# Altium footprint library ATK-2014-09-12.PcbLib: 439 footprints (part 2 of 28)
Each footprint in its own frame and in the unit in brackets; x right, y up, seen from the top. Pads: shape width x height; smd on the part's side, far side on the other; paste and mask are expansions set on the pad; w line width, h text height; cw(c..) or ccw(c..) is an arc to the next point about the centre after c.
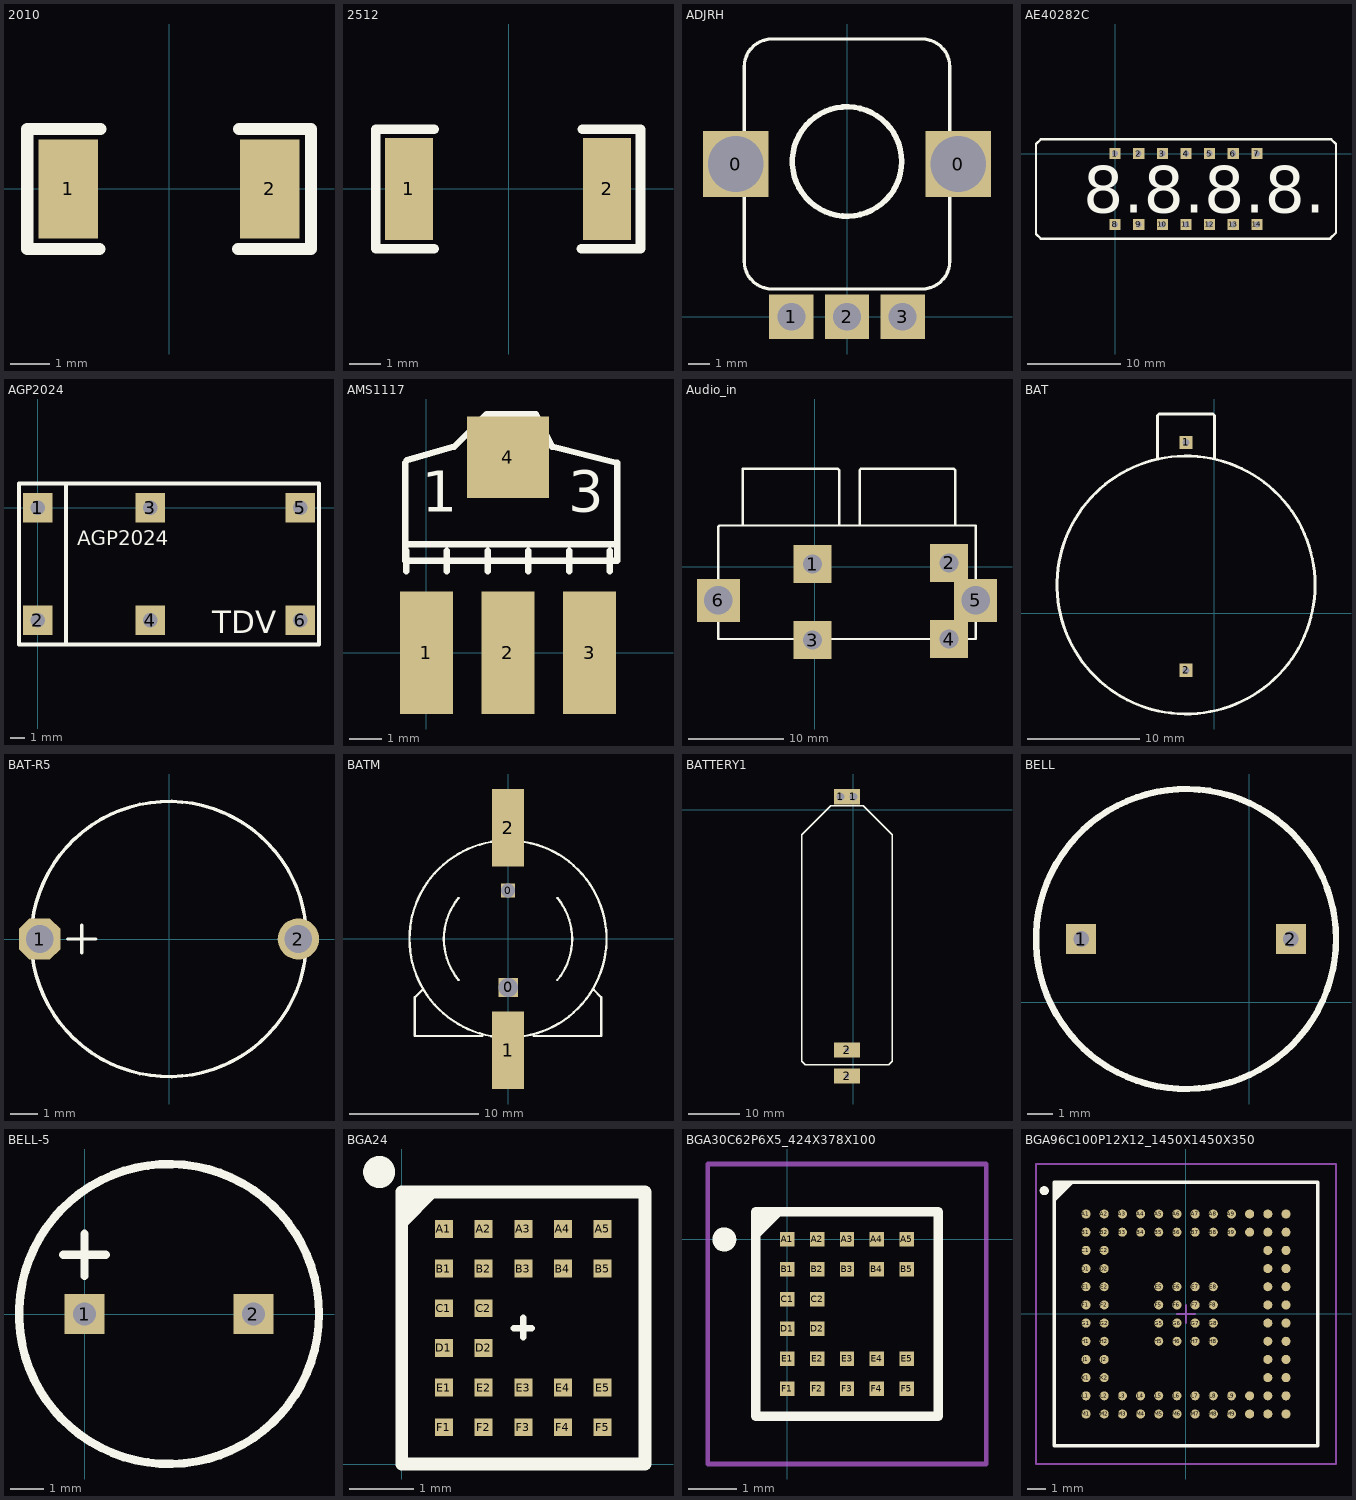
[diagram p1: the footprints below, top view; thin cyan lines are the x and y axes]

## 2010 [mm]
pads (2):
  rect 1.5x2.5 smd: 1(-2.553,0) 2(2.547,0)
Top Overlay:
  lines w0.305: -1.765,-1.524 -3.594,-1.524 -3.594,1.524 -1.74,1.524 ; 1.74,-1.524 3.594,-1.524 3.594,1.524 1.765,1.524

## 2512 [mm]
pads (2):
  rect 1.5x3.2 smd: 1(-3.124,0) 2(3.093,0)
Top Overlay:
  lines w0.305: -2.337,-1.88 -4.166,-1.88 -4.166,1.88 -2.337,1.88 ; 2.286,-1.88 4.14,-1.88 4.14,1.88 2.311,1.88

## ADJRH [mil]
pads (5):
  rect 118.11x118.11 hole 100: 0(-200,275) 0(200,275)
  rect 80x80 hole 50: 1(-100,0) 2(0,0) 3(100,0)
Top Overlay:
  circle w10: c0,279.48 r98.43
  lines w6: -185,100 ccw(c-135,100) -135,50 135,50 ccw(c135,100) 185,100 185,450 ccw(c135,450) 135,500 -135,500 ccw(c-135,450) -185,450 -185,100

## AE40282C [mm]
height 0.5
pads (14):
  rect 1.2x1.2 hole 0.635: 1(0,0) 2(2.54,0) 3(5.08,0) 4(7.62,0) 5(10.16,0) 6(12.7,0) 7(15.24,0) 8(0,-7.62) 9(2.54,-7.62) 10(5.08,-7.62) 11(7.62,-7.62) 12(10.16,-7.62) 13(12.7,-7.62) 14(15.24,-7.62)
Top Overlay:
  lines w0.254: -5.207,-9.144 20.32,-9.144 ; -4.826,-9.144 23.114,-9.144 23.749,-8.509 23.749,1.016 23.241,1.524 -8.001,1.524 -8.509,1.016 -8.509,-8.636 -8.001,-9.144 0.889,-9.144
  text "8.8.8.8." at -3.429,-6.35 h5

## AGP2024 [mm] "size:20mm*11mm*10mm pad:1mm.pads:6."
height 10
pads (6):
  rect 2x2 hole 1: 1(0,0) 2(0,-7.62) 3(7.62,0) 4(7.62,-7.62) 5(17.78,0) 6(17.78,-7.62)
Top Overlay:
  lines w0.254: 1.905,-9.271 1.905,1.524 ; -1.27,-9.271 -1.27,1.651 19.05,1.651 19.05,-9.271 -1.27,-9.271
  text "AGP2024" at 2.667,-2.54 h1
  text "TDV" at 11.811,-8.509 h1.52

## AMS1117 [mil]
pads (4):
  rect 65x150 smd: 1(0.03,-0.06) 2(100.03,-0.06) 3(200.03,-0.06)
  rect 100x100 smd: 4(100.03,239.94)
Top Overlay:
  lines w7.87: -25.97,232.94 -25.97,132.94 ; -24.97,99.94 -24.97,124.94 ; -24.3,236.27 34.03,252.94 74.03,292.94 134.03,292.94 154.03,252.94 234.03,232.94 234.03,112.94 ; 25.03,99.94 25.03,124.94 ; 75.03,99.94 75.03,124.94 ; 125.03,99.94 125.03,124.94 ; 175.03,99.94 175.03,124.94 ; 225.03,99.94 225.03,124.94 ; -25.97,132.94 234.03,132.94 234.03,112.94 ; -25.97,132.94 -25.97,112.94 234.03,112.94
  text "3" at 174.03,172.94 h50
  text "1" at -5.97,172.94 h50

## Audio_in [mm]
height 20
pads (6):
  rect 4x4 hole 2: 1(-0.254,0.254) 2(14.097,0.381) 3(-0.254,-7.747) 4(14.097,-7.62)
  rect 4.5x4.5 hole 3: 5(16.891,-3.556) 6(-10.16,-3.556)
Top Overlay:
  lines w0.254: -7.62,4.318 -7.62,10.287 2.413,10.287 2.54,10.16 2.54,4.318 ; -6.985,4.318 10.795,4.318 ; -6.096,4.318 -10.033,4.318 -10.16,4.191 -10.16,-7.62 10.16,-7.62 ; 4.699,4.318 4.699,9.906 4.699,10.16 4.826,10.287 6.223,10.287 ; 5.842,10.287 7.747,10.287 14.605,10.287 14.732,10.16 14.732,4.318 ; 9.652,-7.62 16.891,-7.62 16.891,2.54 16.891,4.318 10.033,4.318

## BAT [mm] "BATTERY"
pads (2):
  rect 1.2x1.2 hole 0.635: 1(-2.54,15.24) 2(-2.54,-5.08)
Top Overlay:
  circle w0.254: c-2.54,2.54 r11.5
  lines w0.254: -5.08,13.843 -5.08,17.653 -4.953,17.78 -0.127,17.78 0,17.653 0,13.843

## BAT-R5 [mm] "RTC后备电池  直径10mm"
height 3
pads (2):
  oct 1.5x1.5 hole 1: 1(-4.699,0)
  round 1.5 hole 1: 2(4.699,0)
Top Overlay:
  circle w0.127: c0,0 r5
  lines w0.127: -3.683,0 -2.667,0 ; -3.175,-0.508 -3.175,0.508

## BATM [mm] "BAT"
height 7
pads (4):
  rect 1.1x1.1 hole 1.1 unplated: 0(0,3.748)
  rect 1.5x1.5 hole 1.5 unplated: 0(0.025,-3.752)
  rect 2.5x6 smd: 1(0,-8.602) 2(0,8.598)
Top Overlay:
  lines w0.178: -6.6,-3.902 -7.2,-4.502 -7.2,-7.502 -2,-7.502 ; -3.815,-3.171 cw(c0,-0.002) -3.812,3.171 ; -0.833,-7.576 cw(c0,-0.002) -7.62,-0.002 cw(c0,-0.002) -0.833,7.573 ; 0.833,-7.576 ccw(c0,-0.002) 0.833,7.573 ; 2,-7.502 7.2,-7.502 7.2,-4.502 6.625,-3.927 ; 3.81,-3.177 ccw(c0,-0.002) 3.812,3.171

## BATTERY1 [mm] "18mm*49.5mm"
height 20
pads (4):
  rect 2.54x3 hole 1.5: 1(-2.54,2.54) 1(0,2.54)
  rect 5.08x3 hole 0.7: 2(-1.27,-52.07) 2(-1.27,-46.99)
Top Overlay:
  lines w0.254: -10.16,-46.736 -10.16,-44.577 -10.16,-6.604 -10.16,-4.953 -4.445,0.762 1.905,0.762 7.62,-4.953 7.62,-44.323 7.62,-49.149 6.858,-49.911 -9.398,-49.911 -10.16,-49.149 -10.16,-46.609

## BELL [mm] "BELL"
height 10
pads (2):
  rect 1.2x1.2 hole 0.635: 1(-6.731,2.54) 2(1.651,2.54)
Top Overlay:
  circle w0.254: c-2.54,2.54 r6

## BELL-5 [mm] "PIN:5MM,SIZE:10MM"
height 3
pads (2):
  rect 1.2x1.2 hole 0.7: 1(0,0) 2(5.08,0)
Top Overlay:
  circle w0.254: c2.54,0 r4.51
  lines w0.254: -0.635,1.778 0.635,1.778 ; 0,1.143 0,2.413

## BGA24 [mm] "BGA, 24-Leads, Body 4.2x3.8mm,  Pitch 0.62mm"
height 1
pads (24):
  rect 0.28x0.28 smd: A1(0.66,3.675) A2(1.28,3.675) A3(1.9,3.675) A4(2.52,3.675) A5(3.14,3.675) B1(0.66,3.055) B2(1.28,3.055) B3(1.9,3.055) B4(2.52,3.055) B5(3.14,3.055) C1(0.66,2.435) C2(1.28,2.435) D1(0.66,1.815) D2(1.28,1.815) E1(0.66,1.195) E2(1.28,1.195) E3(1.9,1.195) E4(2.52,1.195) E5(3.14,1.195) F1(0.66,0.575) F2(1.28,0.575) F3(1.9,0.575) F4(2.52,0.575) F5(3.14,0.575)
Top Overlay:
  circle w0.25: c-0.354,4.564 r0.125
  region: 0.472,4.25 0,3.778 0,4.25
  lines w0.102: 1.753,2.125 2.032,2.125 ; 1.9,1.981 1.9,2.286
  lines w0.2: 0,3.778 0.472,4.25 ; 0,0 3.8,0 3.8,4.25 0,4.25 0,0

## BGA30C62P6X5_424X378X100 [mm] "BGA, 30-Leads, Body 4.2x3.8mm,  Pitch 0.62mm"
height 1
pads (24):
  rect 0.3x0.3 smd: A1(0,0) A2(0.62,0) A3(1.24,0) A4(1.86,0) A5(2.48,0) B1(0,-0.62) B2(0.62,-0.62) B3(1.24,-0.62) B4(1.86,-0.62) B5(2.48,-0.62) C1(0,-1.24) C2(0.62,-1.24) D1(0,-1.86) D2(0.62,-1.86) E1(0,-2.48) E2(0.62,-2.48) E3(1.24,-2.48) E4(1.86,-2.48) E5(2.48,-2.48) F1(0,-3.1) F2(0.62,-3.1) F3(1.24,-3.1) F4(1.86,-3.1) F5(2.48,-3.1)
Top Overlay:
  circle w0.25: c-1.31,0 r0.125
  region: -0.188,0.575 -0.66,0.103 -0.66,0.575
  lines w0.2: -0.66,0.103 -0.188,0.575 ; -0.66,-3.675 3.14,-3.675 3.14,0.575 -0.66,0.575 -0.66,-3.675
Mechanical 13:
  lines w0.1: -0.66,-3.675 3.14,-3.675 3.14,0.575 -0.66,0.575 -0.66,-3.675
Mechanical 15:
  lines w0.1: -1.653,-4.667 4.132,-4.667 4.132,1.568 -1.653,1.568 -1.653,-4.667

## BGA96C100P12X12_1450X1450X350 [mm] "BGA, 96-Leads, Body 14.5x14.5mm,  Pitch 1.00mm"
height 3.5
pads (96):
  round 0.5 smd: A1(-5.5,5.5) A2(-4.5,5.5) A3(-3.5,5.5) A4(-2.5,5.5) A5(-1.5,5.5) A6(-0.5,5.5) A7(0.5,5.5) A8(1.5,5.5) A9(2.5,5.5) A10(3.5,5.5) A11(4.5,5.5) A12(5.5,5.5) B1(-5.5,4.5) B2(-4.5,4.5) B3(-3.5,4.5) B4(-2.5,4.5) B5(-1.5,4.5) B6(-0.5,4.5) B7(0.5,4.5) B8(1.5,4.5) B9(2.5,4.5) B10(3.5,4.5) B11(4.5,4.5) B12(5.5,4.5) C1(-5.5,3.5) C2(-4.5,3.5) C11(4.5,3.5) C12(5.5,3.5) D1(-5.5,2.5) D2(-4.5,2.5) D11(4.5,2.5) D12(5.5,2.5) E1(-5.5,1.5) E2(-4.5,1.5) E5(-1.5,1.5) E6(-0.5,1.5) E7(0.5,1.5) E8(1.5,1.5) E11(4.5,1.5) E12(5.5,1.5) F1(-5.5,0.5) F2(-4.5,0.5) F5(-1.5,0.5) F6(-0.5,0.5) F7(0.5,0.5) F8(1.5,0.5) F11(4.5,0.5) F12(5.5,0.5) G1(-5.5,-0.5) G2(-4.5,-0.5) G5(-1.5,-0.5) G6(-0.5,-0.5) G7(0.5,-0.5) G8(1.5,-0.5) G11(4.5,-0.5) G12(5.5,-0.5) H1(-5.5,-1.5) H2(-4.5,-1.5) H5(-1.5,-1.5) H6(-0.5,-1.5) H7(0.5,-1.5) H8(1.5,-1.5) H11(4.5,-1.5) H12(5.5,-1.5) J1(-5.5,-2.5) J2(-4.5,-2.5) J11(4.5,-2.5) J12(5.5,-2.5) K1(-5.5,-3.5) K2(-4.5,-3.5) K11(4.5,-3.5) K12(5.5,-3.5) L1(-5.5,-4.5) L2(-4.5,-4.5) L3(-3.5,-4.5) L4(-2.5,-4.5) L5(-1.5,-4.5) L6(-0.5,-4.5) L7(0.5,-4.5) L8(1.5,-4.5) L9(2.5,-4.5) L10(3.5,-4.5) L11(4.5,-4.5) L12(5.5,-4.5) M1(-5.5,-5.5) M2(-4.5,-5.5) M3(-3.5,-5.5) M4(-2.5,-5.5) M5(-1.5,-5.5) M6(-0.5,-5.5) M7(0.5,-5.5) M8(1.5,-5.5) M9(2.5,-5.5) M10(3.5,-5.5) M11(4.5,-5.5) M12(5.5,-5.5)
Top Overlay:
  circle w0.25: c-7.796,6.782 r0.125
  region: -6.25,7.25 -7.25,6.25 -7.25,7.25
  lines w0.2: -7.25,6.25 -6.25,7.25 ; -7.25,-7.25 7.25,-7.25 7.25,7.25 -7.25,7.25 -7.25,-7.25
Mechanical 13:
  lines w0.1: -7.25,-7.25 7.25,-7.25 7.25,7.25 -7.25,7.25 -7.25,-7.25
Mechanical 15:
  lines w0.1: -0.5,0 0.5,0 ; 0,-0.5 0,0.5 ; -8.25,-8.25 8.25,-8.25 8.25,8.25 -8.25,8.25 -8.25,-8.25
3D body: height 3.5, standoff 0.3, extent -7.25,-7.25 7.25,7.25